# Altium footprint library CAS_MainBoard.PcbLib: 15 footprints
Each footprint in its own frame and in the unit in brackets; x right, y up, seen from the top. Pads: shape width x height; smd on the part's side, far side on the other; paste and mask are expansions set on the pad; w line width, h text height; cw(c..) or ccw(c..) is an arc to the next point about the centre after c.
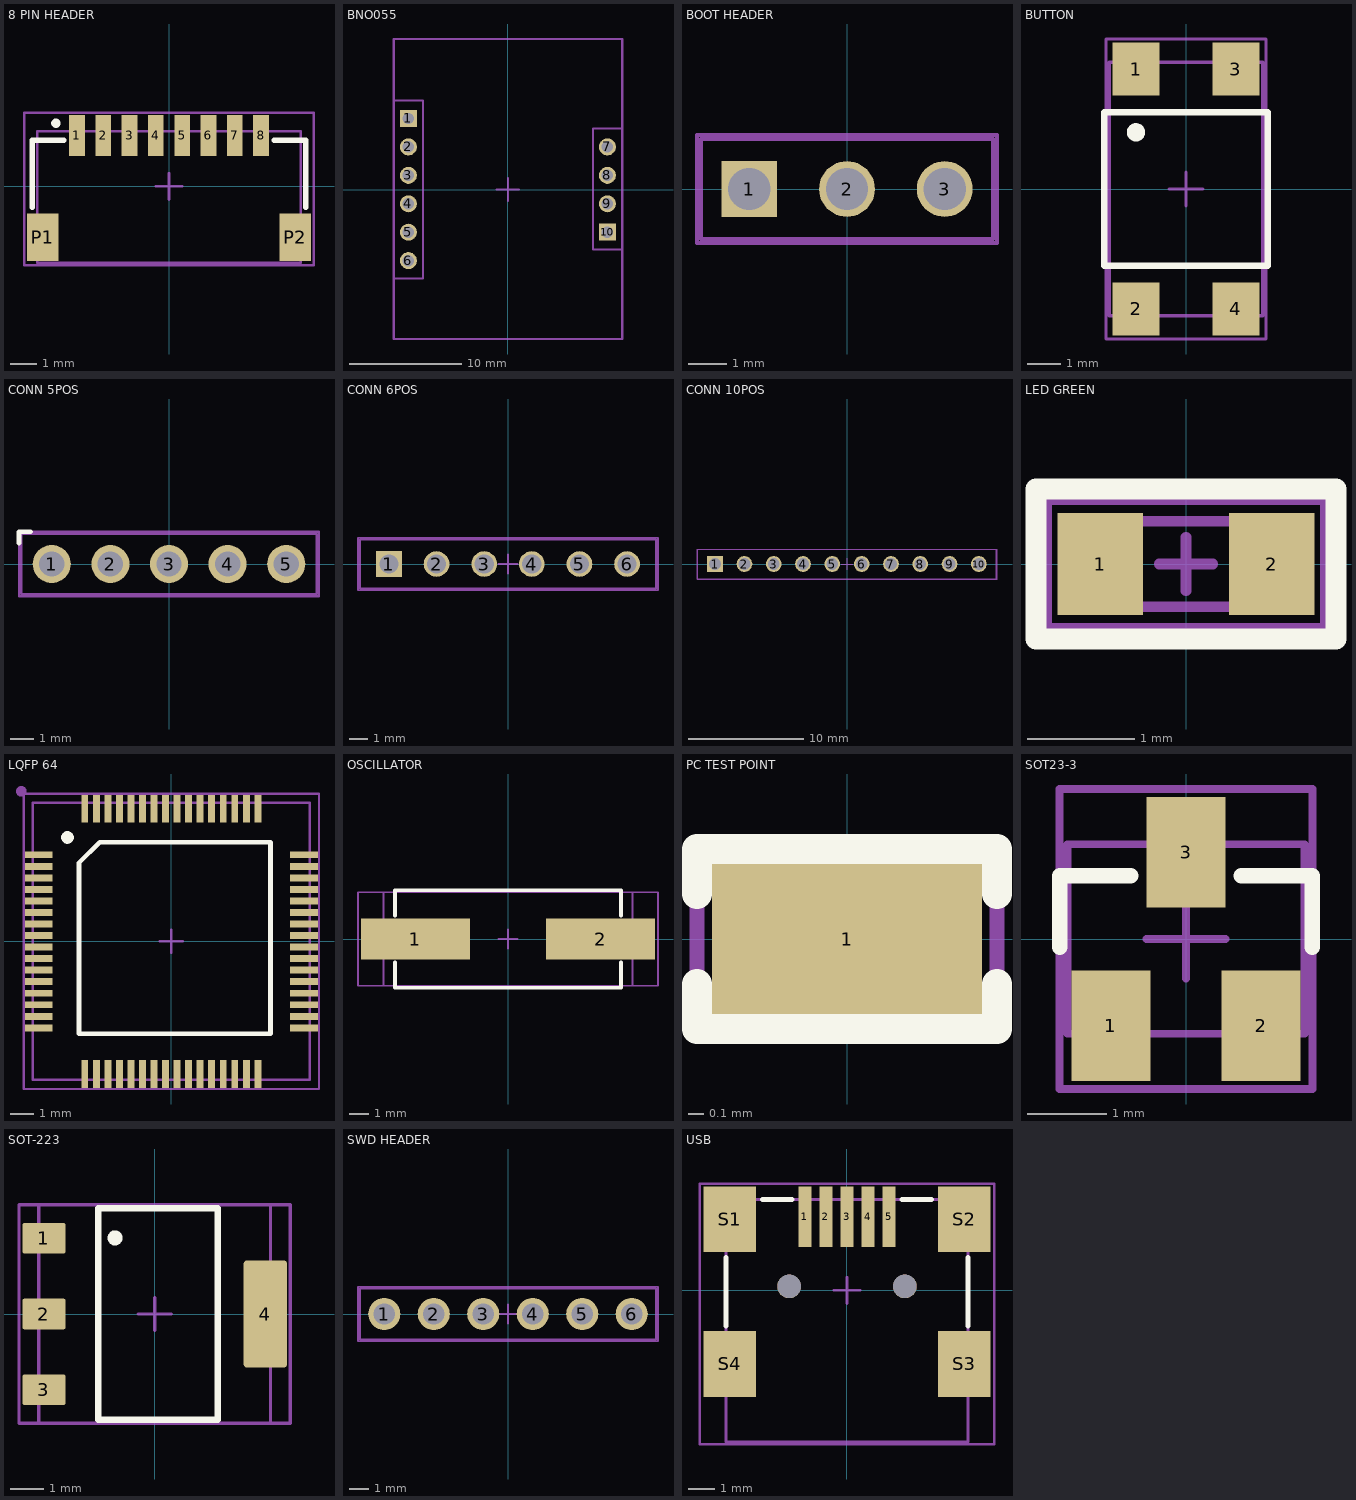
[diagram p0: the footprints below, top view; thin cyan lines are the x and y axes]

## 8 PIN HEADER [mm]
pads (10):
  rect 0.6x1.55 smd: 1(-3.5,1.938) 2(-2.5,1.938) 3(-1.5,1.938) 4(-0.5,1.938) 5(0.5,1.938) 6(1.5,1.938) 7(2.5,1.938) 8(3.5,1.938)
  rect 1.2x1.8 smd: P1(-4.8,-1.937) P2(4.8,-1.937)
Top Overlay:
  circle w0.2: c-4.3,2.4 r0.075
  lines w0.2: -5.2,-0.8 -5.2,1.75 -4,1.75 ; 4,1.75 5.2,1.75 ; 5.144,1.75 5.15,1.744 ; 5.2,-0.8 5.2,1.744
Top 3D Body:
  lines w0.1: -5,-2.9 5,-2.9 5,2.1 -5,2.1 -5,-2.9
Top Component Center:
  lines w0.1: -0.5,0 0.5,0 ; 0,-0.5 0,0.5 ; -5.5,-3 5.5,-3 5.5,2.8 -5.5,2.8 -5.5,-3
Top Designator:
  lines w0.1: -5.5,-3 5.5,-3 5.5,2.8 -5.5,2.8 -5.5,-3
  text "'.Designator'" at -3.046,-0.338 h1.52
3D body "SM08B-SRSS-TB(LF)(SN)--3DModel-STEP-56544.STEP": height 2.95, standoff 0, extent -5,-2.837 5,2.113

## BNO055 [mm]
pads (10):
  rect 1.52x1.52 hole 1.02: 1(-8.89,6.35) 10(8.89,-3.81)
  round 1.52 hole 1.02: 2(-8.89,3.81) 3(-8.89,1.27) 4(-8.89,-1.27) 5(-8.89,-3.81) 6(-8.89,-6.35) 7(8.89,3.81) 8(8.89,1.27) 9(8.89,-1.27)
Top 3D Body:
  lines w0.2: -10.19,-7.95 -7.59,-7.95 -7.59,7.95 -10.19,7.95 ; 10.21,-5.35 7.61,-5.35 7.61,5.45 10.21,5.45 ; -10.19,-13.35 10.21,-13.35 10.21,13.45 -10.19,13.45 -10.19,-13.35
Top Component Center:
  lines w0.2: -1,0 1,0 ; 0,-1 0,1 ; -10.19,-13.35 -10.19,13.45 10.21,13.45 10.21,-13.35 -10.19,-13.35
Top Designator:
  lines w0.2: -10.19,-13.35 -10.19,13.45 10.21,13.45 10.21,-13.35 -10.19,-13.35
  text "'.Designator'" at -1.3,-0.9 h2.15
3D body "Adafruit_BNO055_AP214.STEP": height 13.15, standoff 8.95, extent -10.15,-13.27 10.17,13.4
3D body "61300411821.stp": height 8.55, standoff -3.05, extent 7.64,-5.276 10.14,5.384
3D body "61300611821.stp": height 8.55, standoff -3.06, extent -10.14,-7.87 -7.64,7.87

## BOOT HEADER [mm]
pads (3):
  rect 1.45x1.45 / inner round 1.45 / far side rect 1.45x1.45 hole 1.1: 1(-2.54,0)
  round 1.45 hole 1.1: 2(0,0) 3(2.54,0)
Top 3D Body:
  lines w0.1: -3.8,-1.3 3.8,-1.3 3.8,1.3 -3.8,1.3 -3.8,-1.3
Top Component Center:
  lines w0.1: -0.5,0 0.5,0 ; 0,-0.5 0,0.5 ; -3.9,-1.4 3.9,-1.4 3.9,1.4 -3.9,1.4 -3.9,-1.4
Top Designator:
  lines w0.1: -3.9,-1.4 -3.9,1.4 3.9,1.4 3.9,-1.4 -3.9,-1.4
  text "'.Designator'" at -1.45,-0.2 h0.75
3D body "61300311121.stp": height 8.77, standoff -2.77, extent -3.81,-1.27 3.81,1.27

## BUTTON [mm]
pads (4):
  rect 1.4x1.6 smd: 1(-1.5,3.6) 2(-1.5,-3.6) 3(1.5,3.6) 4(1.5,-3.6)
Top Overlay:
  circle w0.3: c-1.5,1.7 r0.125
  lines w0.2: -2.45,-2.3 -2.45,2.3 ; -2.4,-2.3 2.4,-2.3 ; -2.4,2.3 2.4,2.3 ; 2.45,-2.3 2.45,2.3
Top 3D Body:
  lines w0.1: -2.3,-3.8 2.3,-3.8 2.3,3.8 -2.3,3.8 -2.3,-3.8
Top Component Center:
  lines w0.1: -0.5,0 0.5,0 ; 0,-0.5 0,0.5 ; -2.4,-4.5 2.4,-4.5 2.4,4.5 -2.4,4.5 -2.4,-4.5
Top Designator:
  lines w0.1: -2.4,-4.5 -2.4,4.5 2.4,4.5 2.4,-4.5 -2.4,-4.5
  text "'.Designator'" at -1.886,-0.352 h1
3D body "TL3305AF260QG.step": height 3.8, standoff 0, extent -2.25,-3.75 2.25,3.75

## CONN 5POS [mm]
pads (5):
  round 1.65 hole 1.1: 1(-5.08,0) 2(-2.54,0) 3(0,0) 4(2.54,0) 5(5.08,0)
Top Overlay:
  lines w0.2: -6.5,0.9 -6.5,1.4 -6,1.4
Top 3D Body:
  lines w0.1: -6.4,-1.3 -6.4,1.3 6.4,1.3 6.4,-1.3 -6.4,-1.3
Top Component Center:
  lines w0.1: -0.5,0 0.5,0 ; 0,-0.5 0,0.5 ; -6.5,-1.4 -6.5,1.4 6.5,1.4 6.5,-1.4 -6.5,-1.4
Top Designator:
  lines w0.1: -6.5,-1.4 6.5,-1.4 6.5,1.4 -6.5,1.4 -6.5,-1.4
  text "'.Designator'" at -1.3,-1.1 h2.54
3D body "61300511121_Download_STP_61300511121_rev1.stp": height 9.02, standoff -2.52, extent -6.35,-1.27 6.35,1.27

## CONN 6POS [mm]
pads (6):
  rect 1.37x1.37 hole 1.02: 1(-6.35,0)
  round 1.37 hole 1.02: 2(-3.81,0) 3(-1.27,0) 4(1.27,0) 5(3.81,0) 6(6.35,0)
Top 3D Body:
  lines w0.1: -7.9,-1.3 -7.9,1.3 7.9,1.3 7.9,-1.3 -7.9,-1.3
Top Component Center:
  lines w0.1: -0.5,0 0.5,0 ; 0,-0.5 0,0.5 ; -8,-1.4 8,-1.4 8,1.4 -8,1.4 -8,-1.4
Top Designator:
  lines w0.1: -8,-1.4 -8,1.4 8,1.4 8,-1.4 -8,-1.4
  text "'.Designator'" at -1.3,-1.2 h2.54
3D body "ESQ-106-14-T-S.stp": height 12.26, standoff -10.98, extent -7.874,-1.27 7.874,1.27

## CONN 10POS [mm]
pads (10):
  rect 1.37x1.37 hole 1.02: 1(-11.43,0)
  round 1.37 hole 1.02: 2(-8.89,0) 3(-6.35,0) 4(-3.81,0) 5(-1.27,0) 6(1.27,0) 7(3.81,0) 8(6.35,0) 9(8.89,0) 10(11.43,0)
Top 3D Body:
  lines w0.1: -12.954,-1.27 -12.954,1.27 12.954,1.27 12.954,-1.27 -12.954,-1.27
Top Component Center:
  lines w0.1: -0.5,0 0.5,0 ; 0,-0.5 0,0.5 ; -13,-1.3 13,-1.3 13,1.3 -13,1.3 -13,-1.3
Top Designator:
  lines w0.1: -13,-1.3 -13,1.3 13,1.3 13,-1.3 -13,-1.3
  text "'.Designator'" at -1.2,-1.1 h2.54
3D body "ESQ-110-23-G-S.stp": height 14.51, standoff -3.91, extent -12.954,-1.27 12.954,1.27

## LED GREEN [mm]
pads (2):
  rect 0.8x0.95 smd: 1(-0.8,0) 2(0.8,0)
Top Overlay:
  lines w0.2: -1.4,-0.7 1.4,-0.7 1.4,0.7 -1.4,0.7 -1.4,-0.7
Top 3D Body:
  lines w0.1: -0.8,-0.4 -0.8,0.4 0.8,0.4 0.8,-0.4 -0.8,-0.4
Top Component Center:
  lines w0.1: -0.25,0 0.25,0 ; 0,-0.25 0,0.25 ; -1.3,-0.6 1.3,-0.6 1.3,0.6 -1.3,0.6 -1.3,-0.6
Top Designator:
  lines w0.1: -1.3,-0.6 -1.3,0.6 1.3,0.6 1.3,-0.6 -1.3,-0.6
  text "'.Designator'" at -1,-0.133 h0.5
3D body "APT1608.STEP": height 0.72, standoff -0.03, extent -0.81,-0.4 0.801,0.4

## LQFP 64 [mm]
pads (64):
  rect 1.2x0.3 smd mask+0.05: 1(-5.75,3.75) 2(-5.75,3.25) 3(-5.75,2.75) 4(-5.75,2.25) 5(-5.75,1.75) 6(-5.75,1.25) 7(-5.75,0.75) 8(-5.75,0.25) 9(-5.75,-0.25) 10(-5.75,-0.75) 11(-5.75,-1.25) 12(-5.75,-1.75) 13(-5.75,-2.25) 14(-5.75,-2.75) 15(-5.75,-3.25) 16(-5.75,-3.75) 33(5.75,-3.75) 34(5.75,-3.25) 35(5.75,-2.75) 36(5.75,-2.25) 37(5.75,-1.75) 38(5.75,-1.25) 39(5.75,-0.75) 40(5.75,-0.25) 41(5.75,0.25) 42(5.75,0.75) 43(5.75,1.25) 44(5.75,1.75) 45(5.75,2.25) 46(5.75,2.75) 47(5.75,3.25) 48(5.75,3.75)
  rect 0.3x1.2 smd mask+0.05: 17(-3.75,-5.75) 18(-3.25,-5.75) 19(-2.75,-5.75) 20(-2.25,-5.75) 21(-1.75,-5.75) 22(-1.25,-5.75) 23(-0.75,-5.75) 24(-0.25,-5.75) 25(0.25,-5.75) 26(0.75,-5.75) 27(1.25,-5.75) 28(1.75,-5.75) 29(2.25,-5.75) 30(2.75,-5.75) 31(3.25,-5.75) 32(3.75,-5.75) 49(3.75,5.75) 50(3.25,5.75) 51(2.75,5.75) 52(2.25,5.75) 53(1.75,5.75) 54(1.25,5.75) 55(0.75,5.75) 56(0.25,5.75) 57(-0.25,5.75) 58(-0.75,5.75) 59(-1.25,5.75) 60(-1.75,5.75) 61(-2.25,5.75) 62(-2.75,5.75) 63(-3.25,5.75) 64(-3.75,5.75)
Top Overlay:
  circle w0.3: c-4.5,4.5 r0.125
  lines w0.2: -4,-4 4.3,-4 4.3,4.3 -3.1,4.3 -4,3.4 -4,-4
Top 3D Body:
  circle w0.254: c-6.5,6.5 r0.1
  lines w0.1: -6,-6 6,-6 6,6 -6,6 -6,-6
Top Component Center:
  lines w0.1: -0.5,0 0.5,0 ; 0,-0.5 0,0.5 ; -6.4,-6.4 -6.4,3.7 -6.4,6.4 6.4,6.4 6.4,-6.4 -6.4,-6.4
Top Designator:
  lines w0.1: -6.4,-6.4 6.4,-6.4 6.4,6.4 -6.4,6.4 -6.4,3.7 -6.4,-6.4
  text "'.Designator'" at -2.946,-0.438 h1.52
3D body "LQFP64-10x10mm.step": height 1.6, standoff 0, extent -5.997,-5.997 5.997,5.997

## OSCILLATOR [mm]
pads (2):
  rect 5.6x2.1 smd: 1(-4.75,0) 2(4.75,0)
Top Overlay:
  lines w0.2: -5.8,-1.2 -5.8,-2.5 5.8,-2.5 5.8,-1.2 ; -5.8,1.2 -5.8,2.5 5.8,2.5 5.8,1.2
Top 3D Body:
  lines w0.1: -6.4,-2.4 6.4,-2.4 6.4,2.4 -6.4,2.4 -6.4,-2.4
Top Component Center:
  lines w0.1: -0.5,0 0.5,0 ; 0,-0.5 0,0.5 ; -7.7,-2.4 7.7,-2.4 7.7,2.4 -7.7,2.4 -7.7,1.1 -7.7,-2.4
Top Designator:
  lines w0.1: -7.7,-2.4 -7.7,1.1 -7.7,2.4 7.7,2.4 7.7,-2.4 -7.7,-2.4
  text "'.Designator'" at -1.7,-1.3 h2.54
3D body "ABLS-8.000MHZ-B4-T--3DModel-STEP-400430.STEP": height 4.16, standoff 0, extent -6.35,-2.349 6.35,2.349

## PC TEST POINT [mm]
pads (1):
  rect 1.8x1 smd paste+0 mask+0: 1(0,0)
Top Overlay:
  lines w0.2: -1,-0.3 -1,-0.6 1,-0.6 1,-0.3 ; -1,0.3 -1,0.6 1,0.6 1,0.3
Top 3D Body:
  lines w0.1: -1,-0.6 1,-0.6 1,0.6 -1,0.6 -1,-0.6
Top Component Center:
  lines w0.1: -0.25,0 0.25,0 ; 0,-0.25 0,0.25 ; -1,-0.6 -1,0 -1,0.6 1,0.6 1,-0.6 -1,-0.6
Top Designator:
  lines w0.1: -1,-0.6 -1,0 -1,0.6 1,0.6 1,-0.6 -1,-0.6
  text "'.Designator'" at -0.35,-0.25 h0.52
3D body "Conn_Harwin_S2761-46R_eec.STEP": height 0.25, standoff 0, extent -1,-0.6 1,0.6

## SOT23-3 [mm]
pads (3):
  rect 1x1.4 smd: 1(-0.95,-1.1) 2(0.95,-1.1) 3(0,1.1)
Top Overlay:
  lines w0.2: -1.6,-0.1 -1.6,0.8 -0.7,0.8 ; 0.7,0.8 1.6,0.8 1.6,-0.1
Top 3D Body:
  lines w0.1: -1.5,-1.2 1.5,-1.2 1.5,1.2 -1.5,1.2 -1.5,-1.2
Top Component Center:
  lines w0.1: -0.5,0 0.5,0 ; 0,-0.5 0,0.5 ; -1.6,-1.9 1.6,-1.9 1.6,1.9 -0.6,1.9 -1.6,1.9 -1.6,-1.9
Top Designator:
  lines w0.1: -1.6,-1.9 1.6,-1.9 1.6,1.9 -0.6,1.9 -1.6,1.9 -1.6,-1.9
  text "'.Designator'" at -0.8,-0.5 h1.25
3D body "2N7002K.STEP": height 1.11, standoff 0, extent -1.45,-1.2 1.45,1.2

## SOT-223 [mm]
pads (4):
  rrect15% 1.31x0.93 smd: 1(-3.345,2.29) 2(-3.345,0) 3(-3.345,-2.29)
  rrect15% 1.31x3.24 smd: 4(3.345,0)
Top Overlay:
  circle w0.254: c-1.2,2.3 r0.1
  lines w0.2: -1.7,-3.2 -1.7,3.2 1.9,3.2 1.9,-3.2 -1.7,-3.2
Top 3D Body:
  lines w0.1: -3.5,-3.3 -3.5,3.3 3.5,3.3 3.5,-3.3 -3.5,-3.3
Top Component Center:
  lines w0.1: -0.5,0 0.5,0 ; 0,-0.5 0,0.5 ; -4.1,-3.3 -4.1,2.8 -4.1,3.3 4.1,3.3 4.1,-3.3 -4.1,-3.3
Top Designator:
  lines w0.1: -4.1,-3.3 4.1,-3.3 4.1,3.3 -4.1,3.3 -4.1,2.8 -4.1,-3.3
  text "'.Designator'" at -2.455,-0.337 h1.25
3D body "AMS1117-3.3.STEP": height 1.8, standoff 0, extent -3.499,-3.251 3.499,3.251

## SWD HEADER [mm]
pads (6):
  round 1.65 hole 1.1: 1(-6.35,0) 2(-3.81,0) 3(-1.27,0) 4(1.27,0) 5(3.81,0) 6(6.35,0)
Top 3D Body:
  lines w0.1: -7.6,-1.3 7.6,-1.3 7.6,1.3 -7.6,1.3 -7.6,-1.3
Top Component Center:
  lines w0.1: -0.5,0 0.5,0 ; 0,-0.5 0,0.5 ; -7.7,-1.4 7.7,-1.4 7.7,1.4 -7.7,1.4 -7.7,-1.4
Top Designator:
  lines w0.1: -7.7,-1.4 7.7,-1.4 7.7,1.4 -7.7,1.4
  text "'.Designator'" at -2.5,-0.585 h1.24
3D body "61300611121_Download_STP_61300611121_rev1.stp": height 8.77, standoff -2.77, extent -7.62,-1.27 7.62,1.27

## USB [mm]
pads (11):
  rect 0.5x2.3 smd: 1(-1.6,2.8) 2(-0.8,2.8) 3(0,2.8) 4(0.8,2.8) 5(1.6,2.8)
  rect 2x2.5 smd: S1(-4.45,2.7) S2(4.45,2.7) S3(4.45,-2.8) S4(-4.45,-2.8)
  round 0.9 hole 0.9 unplated: ""(-2.2,0.15) ""(2.2,0.15)
Top Overlay:
  lines w0.2: -4.6,-1.35 -4.6,1.25 ; -3.2,3.45 -2.1,3.45 ; 2.1,3.45 3.2,3.45 ; 4.6,-1.35 4.6,1.25
Top 3D Body:
  lines w0.1: -4.6,-5.75 4.6,-5.75 4.6,3.45 -4.6,3.45 -4.6,-5.75
Top Component Center:
  lines w0.1: -0.5,0 0.5,0 ; 0,-0.5 0,0.5 ; -5.6,-5.85 5.6,-5.85 5.6,4.05 -5.6,4.05 -5.6,-5.85
Top Designator:
  lines w0.1: -5.6,-5.85 -5.6,4.05 5.6,4.05 5.6,-5.85 -5.6,-5.85
  text "'.Designator'" at -3.346,-0.838 h1.52
3D body "690-005-299-043.step": height 3.98, standoff -0.81, extent -4.625,-5.75 4.625,3.45